# Altium schematic symbol library ADM3101EACPZ-REEL.SchLib: 1 symbol
Pins are listed as number, name and electrical type; pins without a type are passive.

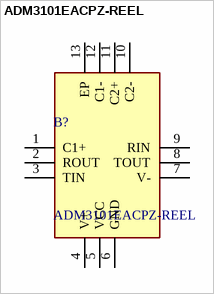
[diagram p0: symbol ADM3101EACPZ-REEL]

## ADM3101EACPZ-REEL
designator B?
RS-232 Interface IC 3.3V 1 Driver 1 Reciever Tranciever 15kV; Manufacturer_Name: Analog Devices; Geometry.Height: 0.8mm; Mouser Part Number: 584-ADM3101EACPZ-R; Mouser Price/Stock: https://www.mouser.co.uk/ProductDetail/Analog-Devices/ADM3101EACPZ-REEL?qs=BpaRKvA4VqEzL%2FUEa%252BmMLg%3D%3D; Manufacturer_Part_Number: ADM3101EACPZ-REEL; Datasheet Link: https://www.mouser.in/datasheet/2/609/ADM3101E-1503349.pdf
footprint QFN50P300X300X80-13N-D
pins: 1 C1+, 2 ROUT, 3 TIN, 4 V+, 5 VCC, 6 GND, 7 V-, 8 TOUT, 9 RIN, 10 C2-, 11 C2+, 12 C1-, 13 EP